# Altium integrated library LAN7800-I_Y9X.IntLib: 1 symbol
Pins are listed as number, name and electrical type; pins without a type are passive.

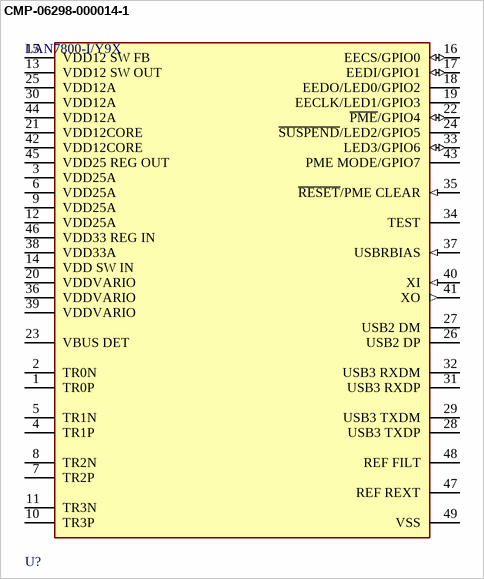
[diagram p0: symbol CMP-06298-000014-1]

## CMP-06298-000014-1
designator U?, comment LAN7800-I/Y9X
IC ETHERNET CTLR USB 48SQFN; Operating Supply Current: 4mA; Min Operating Temperature: -40°C; Max Operating Temperature: 85°C; Packaging: Tray
footprint FP-48SQFN-5304-7x7B-IPC_B
footprint FP-48SQFN-5304-7x7B-IPC_A
footprint FP-48SQFN-5304-7x7B-IPC_C
footprint FP-48SQFN-5304-7x7B-MFG
pins: 1 TR0P, 2 TR0N, 3 VDD25A (power), 4 TR1P, 5 TR1N, 6 VDD25A (power), 7 TR2P, 8 TR2N, 9 VDD25A (power), 10 TR3P, 11 TR3N, 12 VDD25A (power), 13 VDD12 SW OUT (power), 14 VDD SW IN (power), 15 VDD12 SW FB (power), 16 EECS/GPIO0 (io), 17 EEDI/GPIO1 (io), 18 EEDO/LED0/GPIO2, 19 EECLK/LED1/GPIO3, 20 VDDVARIO (power), 21 VDD12CORE (power), 22 ~{PME}/GPIO4 (io), 23 VBUS DET (power), 24 ~{SUSPEND}/LED2/GPIO5, 25 VDD12A (power), 26 USB2 DP, 27 USB2 DM, 28 USB3 TXDP, 29 USB3 TXDM, 30 VDD12A (power), 31 USB3 RXDP, 32 USB3 RXDM, 33 LED3/GPIO6 (io), 34 TEST, 35 ~{RESET}/PME CLEAR (in), 36 VDDVARIO (power), 37 USBRBIAS (in), 38 VDD33A (power), 39 VDDVARIO (power), 40 XI (in), 41 XO (out), 42 VDD12CORE (power), 43 PME MODE/GPIO7, 44 VDD12A (power), 45 VDD25 REG OUT (power), 46 VDD33 REG IN (power), 47 REF REXT, 48 REF FILT, 49 VSS (power)